# EAGLE library part MSTBV8 (library con-phoenix-500)
PHOENIX
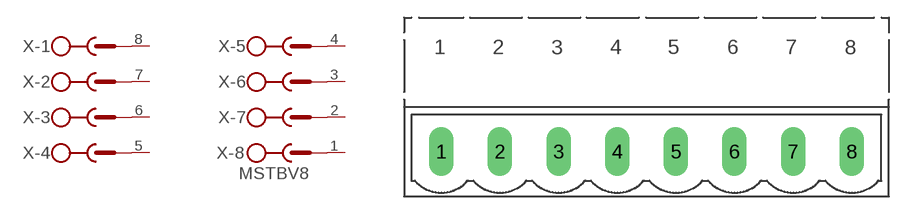
[diagram p2: symbol with the pads of MSTBV8; footprint MSTBV8]

Designator prefix X; gates -1=SK -2=SK -3=SK -4=SK -5=SK -6=SK -7=SK -8=SK+V

## MSTBV8 (OC_FARNELL: unknown; OC_NEWARK: unknown)  [MSTBV8]
1  -8:SK  pas
2  -7:SK  pas
3  -6:SK  pas
4  -5:SK  pas
5  -4:SK  pas
6  -3:SK  pas
7  -2:SK  pas
8  -1:SK  pas

## Footprint MSTBV8 (pad centres in mm)
PHOENIX
drill 1.397 long: 1 -17.501,0; 2 -12.497,0; 3 -7.493,0; 4 -2.489,0; 5 2.515,0; 6 7.493,0; 7 12.497,0; 8 17.501,0